# Altium schematic symbol library Components0805.SchLib: 20 symbols
Pins are listed as number, name and electrical type; pins without a type are passive.

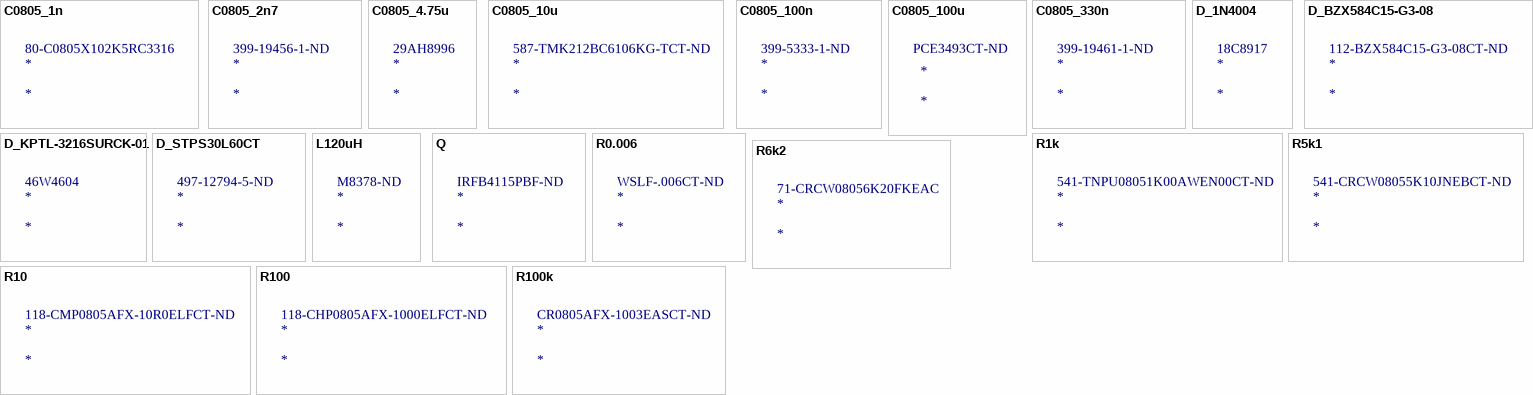
[diagram p0: symbols C0805_1n to R100k]

## C0805_1n
designator *  Supplier Part Number 1: 80-C0805X102K5RC3316
Cap Ceramic 0.001uF 50V X7R 10% SMD 0805 125°C Paper T/R; Manufacturer: KEMET; Manufacturer Part Number: C0805X102K5RAC3316; Capacitance: 1nF; Supplier 1: Mouser; RoHS: No; Category: Ceramic Capacitors; Stock 1: 4982; Pricing 1: 1=0,27000, 10=0,13900, 100=0,08400, 500=0,07400, 1000=0,06500, 4000=0,05100 (USD); Case Code (Imperial): 0805; Case Code (Metric): 2012; Min Operating Temperature: -55°C; Max Operating Temperature: 125°C; Tolerance: 10%; Voltage Rating: 50V; Voltage Rating (DC): 50V; Dielectric: X7R; Packaging: Cut Tape; REACH SVHC: No SVHC; ComponentLink1URL: http://www.farnell.com/datasheets/2163236.pdf?src-supplier=Farnell; ComponentLink1Description: http://www.farnell.com/datasheets/2163236.pdf?src-supplier=Farnell; ComponentLink2URL: http://www.farnell.com/datasheets/2163236.pdf?src-supplier=Element14; ComponentLink2Description: http://www.farnell.com/datasheets/2163236.pdf?src-supplier=Element14

## C0805_2n7
designator *  Supplier Part Number 1: 399-19456-1-ND
Manufacturer: KEMET; Manufacturer Part Number: C0805X271J5GAC7800; Supplier 1: Digi-Key; RoHS: No; Stock 1: 1900; Pricing 1: 1=0,38000, 10=0,26500, 50=0,18520, 100=0,15880, 500=0,11908, 1000=0,10055 (USD)

## C0805_4.75u
designator *  Supplier Part Number 1: 29AH8996
Manufacturer: KEMET; Manufacturer Part Number: C0805X475K3RACAUTO7210; Supplier 1: Newark; RoHS: No; Category: Capacitors; Pricing 1: 10000=0,18800 (USD)

## C0805_10u
designator *  Supplier Part Number 1: 587-TMK212BC6106KG-TCT-ND
Manufacturer: Taiyo Yuden; Manufacturer Part Number: TMK212BC6106KG-T; Supplier 1: Digi-Key; RoHS: No; Stock 1: 4713; Pricing 1: 1=0,78000, 10=0,55500, 50=0,41940, 100=0,36530, 500=0,27060, 1000=0,23001 (USD)

## C0805_100n
designator *  Supplier Part Number 1: 399-5333-1-ND
Cap Ceramic 0.1uF 100V X7R 10% SMD 0805 FlexiTerm 125C Plastic T/R; Manufacturer: KEMET; Manufacturer Part Number: C0805X104K1RACTU; Capacitance: 100nF; Dissipation Factor: 2.5%; Supplier 1: Digi-Key; RoHS: Yes; Category: Ceramic Capacitors; Stock 1: 158706; Pricing 1: 1=0,38000, 10=0,26600, 50=0,18640, 100=0,15970, 500=0,11978, 1000=0,10115 (USD); Mount: Surface Mount,PCB; Case/Package: 0805; Number of Pins: 2; Case Code (Imperial): 0805; Case Code (Metric): 2012; Dielectric Material: Ceramic; Min Operating Temperature: -55°C; Max Operating Temperature: 125°C; Tolerance: 10%; Voltage Rating: 100V; Packaging: Tape and Reel; Voltage Rating (DC): 100V; Package Quantity: 2500; Dielectric: X7R; Termination: SMD/SMT; Voltage: 100V; Features: Soft Termination; Length: 2mm; Width: 1.25mm; Height: 1mm; Thickness: 0.043inch; Depth: 1.25mm; REACH SVHC: No SVHC; ComponentLink1URL: https://datasheet.ciiva.com/14602/70096394-14602234.pdf?src-supplier=Allied+Electronics; ComponentLink1Description: https://datasheet.ciiva.com/14602/70096394-14602234.pdf?src-supplier=Allied+Electronics; ComponentLink2URL: https://datasheet.ciiva.com/7842/kem-c1002-x7r-smd-7842635.pdf?src-supplier=Element14; ComponentLink2Description: https://datasheet.ciiva.com/7842/kem-c1002-x7r-smd-7842635.pdf?src-supplier=Element14

## C0805_100u
designator *  Supplier Part Number 2: PCE3493CT-ND
PANASONIC - EEVFK1K101Q - CAP, 100µF, 80V, SMD REEL; Manufacturer: Taiyo Yuden; Manufacturer Part Number: AMK212BBJ107MG-TE; Dielectric Material: Aluminium; Capacitance: 100uF; Tolerance: 20%; Ripple Current: 500mA; ESR (Equivalent Series Resistance): 320mR; Life (Hours): 5000Hour; Leakage Current: 3uA; Supplier 1: Digi-Key; RoHS: No; Stock 1: 5998; Pricing 1: 1=1,40000, 10=1,10700, 50=0,95920, 100=0,83010, 500=0,62720, 1000=0,55341 (USD); Supplier 2: Digi-Key; Category: Aluminum Electrolytic Capacitors; Stock 2: 753; Pricing 2: 1=1,14000, 10=0,90300, 50=0,78260, 100=0,67730 (USD); Mount: Surface Mount,PCB; Case/Package: Radial; Number of Pins: 2; Contact Plating: Tin; Min Operating Temperature: -55°C; Max Operating Temperature: 105°C; Voltage Rating (DC): 80V; Voltage Rating: 80V; Packaging: Tape and Reel; Package Quantity: 1; Impedance: 320mR; Ripple Current (AC): 500mA; Termination: SMD/SMT; Voltage: 80V; Diameter: 12.5mm; Length: 14mm; Width: 900um; Height: 13.5mm; Height - Seated (Max): 0.531inch; Radiation Hardening: No; REACH SVHC: No SVHC; Lead Free: Lead Free; ComponentLink1URL: https://datasheet.ciiva.com/11783/0900766b80e4e8b0-11783482.pdf?src-supplier=RSComponents; ComponentLink1Description: https://datasheet.ciiva.com/11783/0900766b80e4e8b0-11783482.pdf?src-supplier=RSComponents; ComponentLink2URL: https://datasheet.ciiva.com/17534/aba0000ce120-17534293.pdf?src-supplier=Avnet+Europe; ComponentLink2Description: https://datasheet.ciiva.com/17534/aba0000ce120-17534293.pdf?src-supplier=Avnet+Europe; ComponentLink3URL: https://datasheet.ciiva.com/2984/aba0000ce120-2984087.pdf?src-supplier=Avnet; ComponentLink3Description: https://datasheet.ciiva.com/2984/aba0000ce120-2984087.pdf?src-supplier=Avnet; ComponentLink4URL: https://datasheet.ciiva.com/30059/eev-fkseries-30059255.pdf?src-supplier=Onlinecomponents.com; ComponentLink4Description: https://datasheet.ciiva.com/30059/eev-fkseries-30059255.pdf?src-supplier=Onlinecomponents.com; ComponentLink5URL: https://datasheet.ciiva.com/46389/1676921-46389287.pdf?src-supplier=Element14; ComponentLink5Description: https://datasheet.ciiva.com/46389/1676921-46389287.pdf?src-supplier=Element14; ComponentLink6URL: https://datasheet.ciiva.com/43485/1676921-43485530.pdf?src-supplier=Farnell; ComponentLink6Description: https://datasheet.ciiva.com/43485/1676921-43485530.pdf?src-supplier=Farnell; ComponentLink7URL: https://datasheet.ciiva.com/16395/aba0000ce120-16395627.pdf?src-supplier=Future+Electronics; ComponentLink7Description: https://datasheet.ciiva.com/16395/aba0000ce120-16395627.pdf?src-supplier=Future+Electronics; ComponentLink8URL: https://datasheet.ciiva.com/46376/1676921-46376795.pdf?src-supplier=Element14; ComponentLink8Description: https://datasheet.ciiva.com/46376/1676921-46376795.pdf?src-supplier=Element14; ComponentLink9URL: https://datasheet.ciiva.com/14600/70258115-14600973.pdf?src-supplier=Allied+Electronics; ComponentLink9Description: https://datasheet.ciiva.com/14600/70258115-14600973.pdf?src-supplier=Allied+Electronics; ComponentLink10URL: https://datasheet.ciiva.com/6134/1676921-6134399.pdf?src-supplier=Farnell; ComponentLink10Description: https://datasheet.ciiva.com/6134/1676921-6134399.pdf?src-supplier=Farnell

## C0805_330n
designator *  Supplier Part Number 1: 399-19461-1-ND
Manufacturer: KEMET; Manufacturer Part Number: C0805X334K4RACAUTO; Supplier 1: Digi-Key; RoHS: No; Stock 1: 3630; Pricing 1: 1=0,73000, 10=0,53900, 50=0,43160, 100=0,36990, 500=0,29286, 1000=0,24662 (USD)

## D_1N4004
designator *  Supplier Part Number 1: 18C8917
FAIRCHILD SEMICONDUCTOR         1N4004            Standard Recovery Diode, Single, 400 V, 1 A, 1.1 V, 30 A, 175 C; Manufacturer: ON Semiconductor / Fairchild; Max Reverse Current: 5uA; Max Surge Current: 30A; Max Repetitive Reverse Voltage (Vrrm): 400V; Forward Voltage: 1.1V; Average Rectified Current: 1A; Capacitance: 15pF; Power Dissipation: 3W; Supplier 1: Newark; Manufacturer Part Number: 1N4004; RoHS: Yes; Category: Integrated Circuits (ICs); Mount: Through Hole; Number of Pins: 2; Contact Plating: Tin,Matte; Weight: 0.245g; Min Operating Temperature: -55°C; Max Operating Temperature: 175°C; Packaging: Tape and Reel; Element Configuration: Single; Package Quantity: 1000; Peak Non-Repetitive Surge Current: 30A; Reverse Voltage: 400V; Max Reverse Voltage (DC): 400V; Max Forward Surge Current (Ifsm): 30A; Polarity: Standard; Forward Current: 1A; Output Current: 1A; Voltage Rating (DC): 400V; Current Rating: 1A; Diameter: 2.72mm; Length: 5.2mm; Width: 0.25inch; Height: 5.2mm; Radiation Hardening: No; Lead Free: Lead Free; REACH SVHC: No SVHC; ComponentLink1URL: https://datasheet.ciiva.com/30479/0900766b810c07cd-30479537.pdf?src-supplier=RSComponents; ComponentLink1Description: https://datasheet.ciiva.com/30479/0900766b810c07cd-30479537.pdf?src-supplier=RSComponents; ComponentLink2URL: https://datasheet.ciiva.com/16741/1n4004-16741223.pdf?src-supplier=Future+Electronics; ComponentLink2Description: https://datasheet.ciiva.com/16741/1n4004-16741223.pdf?src-supplier=Future+Electronics; ComponentLink3URL: https://datasheet.ciiva.com/26230/1n4007-26230869.pdf?src-supplier=Avnet+Europe; ComponentLink3Description: https://datasheet.ciiva.com/26230/1n4007-26230869.pdf?src-supplier=Avnet+Europe; ComponentLink4URL: https://datasheet.ciiva.com/927/1n4001-d-927543.pdf?src-supplier=Digi-Key; ComponentLink4Description: https://datasheet.ciiva.com/927/1n4001-d-927543.pdf?src-supplier=Digi-Key; ComponentLink5URL: https://datasheet.ciiva.com/15208/getdatasheetpartid-127807-15208348.pdf?src-supplier=Verical; ComponentLink5Description: https://datasheet.ciiva.com/15208/getdatasheetpartid-127807-15208348.pdf?src-supplier=Verical; ComponentLink6URL: https://datasheet.ciiva.com/910/1n4001-910366.pdf?src-supplier=Digi-Key; ComponentLink6Description: https://datasheet.ciiva.com/910/1n4001-910366.pdf?src-supplier=Digi-Key; ComponentLink7URL: https://datasheet.ciiva.com/910/1n4001-910367.pdf?src-supplier=Digi-Key; ComponentLink7Description: https://datasheet.ciiva.com/910/1n4001-910367.pdf?src-supplier=Digi-Key; ComponentLink8URL: https://datasheet.ciiva.com/7965/1880997-7965279.pdf?src-supplier=Element14; ComponentLink8Description: https://datasheet.ciiva.com/7965/1880997-7965279.pdf?src-supplier=Element14; ComponentLink9URL: https://datasheet.ciiva.com/48686/001262763-da-01-en-diode-gen-purpose-400v-1n4004-do-41-fsc-48686278.pdf?src-supplier=Conrad; ComponentLink9Description: https://datasheet.ciiva.com/48686/001262763-da-01-en-diode-gen-purpose-400v-1n4004-do-41-fsc-48686278.pdf?src-supplier=Conrad

## D_BZX584C15-G3-08
designator *  Supplier Part Number 1: 112-BZX584C15-G3-08CT-ND
Manufacturer: Vishay; Manufacturer Part Number: BZX584C15-G3-08; Supplier 1: Digi-Key; RoHS: No; Category: Zener Diodes; Stock 1: 7990; Pricing 1: 1=0,29000, 10=0,24000, 100=0,09810, 500=0,08184, 1000=0,05687, 2000=0,05285 (USD)

## D_KPTL-3216SURCK-01
designator *  Supplier Part Number 1: 46W4604
KINGBRIGHT - KPTL-3216SURCK-01 - LED, Low Power, Red, SMD - Reverse Mount, 1206 (3216 Metric), 20 mA, 1.95 V, 630 nm; Lens Style: Diffused,Colorless,Circular,Round; Viewing Angle: 70°; Number of LEDs: 1; Forward Voltage: 1.95V; Luminous Intensity: 550mcd; Wavelength: 630nm; Forward Current: 20mA; Supplier 1: Newark; Manufacturer: Kingbright; Manufacturer Part Number: KPTL-3216SURCK-01; RoHS: Yes; Category: LEDs; Pricing 1: 5=0,49900, 10=0,38700, 25=0,26800, 50=0,22400, 100=0,18900, 250=0,15300, 500=0,13100, 1000=0,11000 (USD); Mount: Surface Mount; Case/Package: SMD/SMT; Number of Pins: 2; Color: Red; Packaging: Cut Tape; Radiation Hardening: No; REACH SVHC: No SVHC; ComponentLink1URL: https://datasheet.ciiva.com/23674/1655888-23674612.pdf?src-supplier=Newark; ComponentLink1Description: https://datasheet.ciiva.com/23674/1655888-23674612.pdf?src-supplier=Newark

## D_STPS30L60CT
designator *  Supplier Part Number 1: 497-12794-5-ND
DIODE ARRAY SCHOTTKY 60V TO220AB; Manufacturer: STMicroelectronics; Manufacturer Part Number: STPS30L60CT; Element Configuration: Common Cathode; Peak Non-Repetitive Surge Current: 230A; Average Rectified Current: 15A; Max Reverse Current: 480uA; Forward Current: 30A; Forward Voltage: 600mV; Supplier 1: Digi-Key; RoHS: Yes; Category: Schottky Diodes; Stock 1: 88; Pricing 1: 1=1,53000, 10=1,37000, 100=0,97530, 500=0,82668, 1000=0,67342, 2000=0,66414, 5000=0,60376, 10000=0,57589, 50000=0,55732 (USD); Mount: Through Hole; Case/Package: TO-220AB; Number of Pins: 3; Min Operating Temperature: -65°C; Max Operating Temperature: 150°C; Packaging: Rail/Tube; Max Repetitive Reverse Voltage (Vrrm): 60V; Package Quantity: 50; Max Reverse Voltage (DC): 60V; Max Reverse Leakage Current: 480uA; Max Surge Current: 230A; Max Forward Surge Current (Ifsm): 230A; Current Rating: 30A; Voltage Rating (DC): 60V; Length: 10.4mm; Width: 4.6mm; Height: 9.15mm; Radiation Hardening: No; Lead Free: Lead Free; REACH SVHC: No SVHC; ComponentLink1URL: https://datasheet.ciiva.com/14167/cd00001736-14167874.pdf?src-supplier=Distrelec; ComponentLink1Description: https://datasheet.ciiva.com/14167/cd00001736-14167874.pdf?src-supplier=Distrelec; ComponentLink2URL: https://datasheet.ciiva.com/17076/stps30l60ct-17076250.pdf?src-supplier=Allied+Electronics; ComponentLink2Description: https://datasheet.ciiva.com/17076/stps30l60ct-17076250.pdf?src-supplier=Allied+Electronics; ComponentLink3URL: https://datasheet.ciiva.com/16491/cd00001736-16491519.pdf?src-supplier=Future+Electronics; ComponentLink3Description: https://datasheet.ciiva.com/16491/cd00001736-16491519.pdf?src-supplier=Future+Electronics; ComponentLink4URL: https://datasheet.ciiva.com/906/cd00001736-906730.pdf?src-supplier=Digi-Key; ComponentLink4Description: https://datasheet.ciiva.com/906/cd00001736-906730.pdf?src-supplier=Digi-Key

## L120uH
designator *  Supplier Part Number 1: M8378-ND
FIXED IND 120UH 9.9A 28 MOHM TH; Manufacturer: Bourns; Manufacturer Part Number: 1140-121K-RC; Core Material: Ferrite; Saturation Current: 18.6A; Max DC Current: 14.4A; DC Resistance (DCR): 28mR; Test Frequency: 1kHz; Lead/Base Style: Radial; Tolerance: 10%; Shielding: Unshielded; Lead Length: 12.7mm; Supplier 1: Digi-Key; RoHS: Yes; Category: Fixed Inductors; Stock 1: 742; Pricing 1: 1=9,56000, 10=8,50000, 25=7,86240, 50=6,80000, 100=6,58750, 250=6,37500, 500=6,16250, 1000=5,65250 (USD); Mount: Through Hole; Case/Package: Radial; Number of Pins: 2; Contact Plating: Tin; Min Operating Temperature: -55°C; Max Operating Temperature: 105°C; Inductance: 120uH; Termination: Radial; Resistor Type: Wirewound; DC Current: 9.9A; Package Quantity: 70; Current Rating: 9.9A; Packaging: Bulk; Diameter: 38.1mm; Length: 1.03inch; Height - Seated (Max): 1.03inch; Lead Pitch: 29.21mm; Lead Free: Lead Free; Military Standard: Not; ComponentLink1URL: https://datasheet.ciiva.com/13315/1140-series-61680-13315973.pdf?src-supplier=Mouser; ComponentLink1Description: https://datasheet.ciiva.com/13315/1140-series-61680-13315973.pdf?src-supplier=Mouser; ComponentLink2URL: https://datasheet.ciiva.com/1053/1140-series-1053095.pdf?src-supplier=Digi-Key; ComponentLink2Description: https://datasheet.ciiva.com/1053/1140-series-1053095.pdf?src-supplier=Digi-Key; ComponentLink3URL: https://datasheet.ciiva.com/30060/8931140-series-30060683.pdf?src-supplier=Onlinecomponents.com; ComponentLink3Description: https://datasheet.ciiva.com/30060/8931140-series-30060683.pdf?src-supplier=Onlinecomponents.com; ComponentLink4URL: https://datasheet.ciiva.com/8106/1140-series-8106157.pdf?src-supplier=Avnet; ComponentLink4Description: https://datasheet.ciiva.com/8106/1140-series-8106157.pdf?src-supplier=Avnet

## Q
designator *  Supplier Part Number 1: IRFB4115PBF-ND
Trans MOSFET N-CH 150V 104A 3-Pin(3+Tab) TO-220AB Tube; Manufacturer: International Rectifier; Manufacturer Part Number: IRFB4115PBF; Gate to Source Voltage (Vgs): 20V; Turn-On Delay Time: 18ns; Turn-Off Delay Time: 41ns; Fall Time: 39ns; Rise Time: 73ns; Rds On Max: 11mR; Element Configuration: Single; Power Dissipation: 380W; Input Capacitance: 5.27nF; Number of Elements: 1; Threshold Voltage: 5V; Supplier 1: Digi-Key; RoHS: Yes; Category: MOSFETs; Stock 1: 970; Pricing 1: 1=2,83000, 10=2,54400, 25=2,40000, 100=1,87200, 500=1,58400, 1000=1,34400, 2500=1,32480, 5000=1,22880, 9000=1,18080 (USD); Mount: Through Hole; Case/Package: TO-220AB; Number of Pins: 3; Min Operating Temperature: -55°C; Max Operating Temperature: 175°C; Continuous Drain Current (ID): 104A; Drain to Source Voltage (Vdss): 150V; Drain to Source Breakdown Voltage: 150V; Drain to Source Resistance: 11mR; Packaging: Rail/Tube; Max Power Dissipation: 380W; Package Quantity: 50; Termination: Through Hole; Nominal Vgs: 5V; Dual Supply Voltage: 150V; Length: 10.67mm; Width: 4.83mm; Height: 9.02mm; Radiation Hardening: No; Lead Free: Lead Free; REACH SVHC: No SVHC; ComponentLink1URL: https://datasheet.ciiva.com/14170/irfb4115pbf-eng-tds-14170654.pdf?src-supplier=Distrelec; ComponentLink1Description: https://datasheet.ciiva.com/14170/irfb4115pbf-eng-tds-14170654.pdf?src-supplier=Distrelec; ComponentLink2URL: https://datasheet.ciiva.com/16381/irfb4115pbf-16381986.pdf?src-supplier=Future+Electronics; ComponentLink2Description: https://datasheet.ciiva.com/16381/irfb4115pbf-16381986.pdf?src-supplier=Future+Electronics; ComponentLink3URL: https://datasheet.ciiva.com/6380/irfb4115pbf-6380807.pdf?src-supplier=Digi-Key; ComponentLink3Description: https://datasheet.ciiva.com/6380/irfb4115pbf-6380807.pdf?src-supplier=Digi-Key; ComponentLink4URL: https://datasheet.ciiva.com/7798/irfb4115pbf-7798749.pdf?src-supplier=Element14; ComponentLink4Description: https://datasheet.ciiva.com/7798/irfb4115pbf-7798749.pdf?src-supplier=Element14; ComponentLink5URL: https://datasheet.ciiva.com/29324/160934-da-01-en-mosfet-irfb4115pbf-to220ab-ir-29324714.pdf?src-supplier=Conrad; ComponentLink5Description: https://datasheet.ciiva.com/29324/160934-da-01-en-mosfet-irfb4115pbf-to220ab-ir-29324714.pdf?src-supplier=Conrad

## R0.006
designator *  Supplier Part Number 1: WSLF-.006CT-ND
RES SMD 6 MOHM 1% 1W 2010; Manufacturer: Vishay Dale; Manufacturer Part Number: WSL20106L000FEA18; Resistance: 6mR; Temperature Coefficient: 110ppm/°C; Supplier 1: Digi-Key; RoHS: Yes; Category: Chip SMD Resistors; Stock 1: 2770; Pricing 1: 1=1,65000, 10=1,45700, 25=1,33960, 50=1,22200, 100=1,05750, 250=0,89300, 500=0,75200, 1000=0,63920 (USD); Mount: Surface Mount; Case/Package: 2010; Contact Plating: Tin,Matte; Case Code (Metric): 5025; Case Code (Imperial): 2010; Min Operating Temperature: -65°C; Max Operating Temperature: 170°C; Tolerance: 1%; Power Rating: 1W; Resistor Type: Metal Element,Metal Strip; Packaging: Tape and Reel; Package Quantity: 1; Number of Terminations: 2; Termination: SMD/SMT; Max Power Dissipation: 1W; Features: Moisture Resistant; Length: 0.2inch; Width: 0.1inch; Height: 0.635mm; Depth: 2.54mm; Radiation Hardening: No; Lead Free: Lead Free; REACH SVHC: Unknown; ComponentLink1URL: https://datasheet.ciiva.com/2484/wslhigh-2484484.pdf?src-supplier=Digi-Key; ComponentLink1Description: https://datasheet.ciiva.com/2484/wslhigh-2484484.pdf?src-supplier=Digi-Key; ComponentLink2URL: https://datasheet.ciiva.com/17193/wslhigh-17193797.pdf?src-supplier=Avnet+Europe; ComponentLink2Description: https://datasheet.ciiva.com/17193/wslhigh-17193797.pdf?src-supplier=Avnet+Europe; ComponentLink3URL: https://datasheet.ciiva.com/9063/wslhigh-9063932.pdf?src-supplier=Avnet; ComponentLink3Description: https://datasheet.ciiva.com/9063/wslhigh-9063932.pdf?src-supplier=Avnet; ComponentLink4URL: https://datasheet.ciiva.com/5469/wslhigh-101698-5469279.pdf?src-supplier=Mouser; ComponentLink4Description: https://datasheet.ciiva.com/5469/wslhigh-101698-5469279.pdf?src-supplier=Mouser; ComponentLink5URL: https://datasheet.ciiva.com/2484/wslhigh-2484485.pdf?src-supplier=Digi-Key; ComponentLink5Description: https://datasheet.ciiva.com/2484/wslhigh-2484485.pdf?src-supplier=Digi-Key; ComponentLink6URL: https://datasheet.ciiva.com/2484/wslhigh-2484486.pdf?src-supplier=Digi-Key; ComponentLink6Description: https://datasheet.ciiva.com/2484/wslhigh-2484486.pdf?src-supplier=Digi-Key

## R1k
designator *  Supplier Part Number 1: 541-TNPU08051K00AWEN00CT-ND
Manufacturer: Vishay Dale; Manufacturer Part Number: TNPU08051K00AWEN00; Supplier 1: Digi-Key; RoHS: No; Stock 1: 944; Pricing 1: 1=4,66000, 10=4,21600, 100=3,13950 (USD)

## R5k1
designator *  Supplier Part Number 1: 541-CRCW08055K10JNEBCT-ND
Thick Film Resistors - SMD 1/8watt 5.1Kohms 5%; Manufacturer: Vishay Dale; Manufacturer Part Number: CRCW08055K10JNEB; Voltage Rating: 150V; Resistance: 5.1kR; Power Rating: 125mW; Temperature Coefficient: 200ppm/°C; Supplier 1: Digi-Key; RoHS: Yes; Category: Chip SMD Resistors; Stock 1: 14608; Pricing 1: 1=0,10000, 10=0,03600, 100=0,01480, 1000=0,00663, 2500=0,00575, 5000=0,00475 (USD); Case/Package: 0805; Weight: 0.000194oz; Case Code (Imperial): 0805; Case Code (Metric): 2012; Contact Plating: Tin; Min Operating Temperature: -55°C; Max Operating Temperature: 155°C; Packaging: Tape and Reel; Package Quantity: 10000; Tolerance: 5%; Resistor Type: Thick Film; Number of Terminations: 2; Termination: SMD/SMT; Max Power Dissipation: 125mW; Features: Automotive AEC-Q200; Length: 0.079inch; Width: 0.049inch; Height: 0.02inch; Lead Free: Lead Free; ComponentLink1URL: https://datasheet.ciiva.com/5584/dcrcwe3-109170-5584827.pdf?src-supplier=Mouser; ComponentLink1Description: https://datasheet.ciiva.com/5584/dcrcwe3-109170-5584827.pdf?src-supplier=Mouser; ComponentLink2URL: https://datasheet.ciiva.com/9068/dcrcwe3-9068511.pdf?src-supplier=Avnet; ComponentLink2Description: https://datasheet.ciiva.com/9068/dcrcwe3-9068511.pdf?src-supplier=Avnet

## R6k2
designator *  Supplier Part Number 1: 71-CRCW08056K20FKEAC
CRCW Thick Film Commodity Chip Resistor 0805 Size 6.2K Ohm 1% 0.125 W 100 ppm/K 2-Pin SMD Paper T/R; Manufacturer: Vishay; Manufacturer Part Number: CRCW08056K20FKEAC; Resistance: 6.2kR; Max Power Dissipation: 125mW; Temperature Coefficient: 100ppm/°C; Supplier 1: Mouser; RoHS: No; Category: Chip SMD Resistors; Stock 1: 36786; Pricing 1: 1=0,16000, 10=0,05900, 100=0,02400, 1000=0,01000, 5000=0,00700, 10000=0,00600 (USD); Case/Package: 0805; Min Operating Temperature: -55°C; Max Operating Temperature: 155°C; Resistor Type: Thick Film; Packaging: Tape and Reel; Tolerance: 1%; Number of Terminations: 2; ComponentLink1URL: http://www.vishay.com/docs/28773/crcwce3.pdf?src-supplier=Digi-Key; ComponentLink1Description: http://www.vishay.com/docs/28773/crcwce3.pdf?src-supplier=Digi-Key

## R10
designator *  Supplier Part Number 1: 118-CMP0805AFX-10R0ELFCT-ND
Manufacturer: Bourns; Manufacturer Part Number: CMP0805AFX-10R0ELF; Supplier 1: Digi-Key; RoHS: No; Stock 1: 5000; Pricing 1: 1=0,22000, 10=0,18700, 100=0,07310, 1000=0,03060, 2500=0,02805 (USD)

## R100
designator *  Supplier Part Number 1: 118-CHP0805AFX-1000ELFCT-ND
Manufacturer: Bourns; Manufacturer Part Number: CHP0805AFX-1000ELF; Supplier 1: Digi-Key; RoHS: No; Stock 1: 3875; Pricing 1: 1=0,61000, 10=0,46900, 100=0,19720, 1000=0,10880, 2500=0,10200 (USD)

## R100k
designator *  Supplier Part Number 1: CR0805AFX-1003EASCT-ND
Manufacturer: Bourns; Manufacturer Part Number: CR0805AFX-1003EAS; Supplier 1: Digi-Key; RoHS: No; Stock 1: 18710; Pricing 1: 1=0,10000, 10=0,07700, 100=0,02950, 1000=0,01298, 2500=0,01121 (USD)